# EAGLE library part SENSOR_BREAKOUT (library RTR)
.1 inch-spaced 12P sensor breakout Used as a generalized connector for attaching new sensors
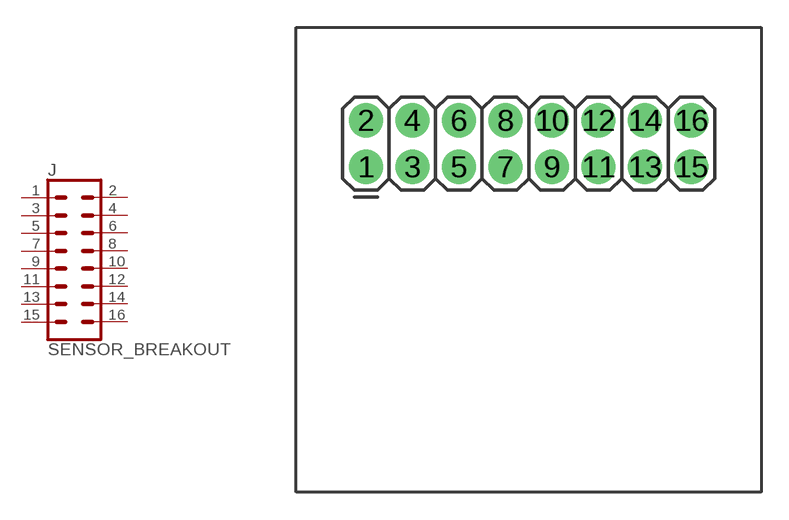
[diagram p2: symbol with the pads of 2X7; footprint 2X7]

Designator prefix J

## SENSOR_BREAKOUTPTH_FEMALE (PROD_ID: CONN-12423; VALUE: 2X6 FEMALE)  [2X7]
1  1  pas
2  2  pas
3  3  pas
4  4  pas
5  5  pas
6  6  pas
7  7  pas
8  8  pas
9  9  pas
10  10  pas
11  11  pas
12  12  pas
13  13  pas
14  14  pas
15  15  pas
16  16  pas

## Footprint 2X7 (pad centres in mm)
Plated Through Hole - 2x7 Specifications: Pin count:14 Pin pitch:0.1" Example device(s): CONN_07x2
drill 1.016 pad 1.88: 1 -8.89,5.08; 2 -8.89,7.62; 3 -6.35,5.08; 4 -6.35,7.62; 5 -3.81,5.08; 6 -3.81,7.62; 7 -1.27,5.08; 8 -1.27,7.62; 9 1.27,5.08; 10 1.27,7.62; 11 3.81,5.08; 12 3.81,7.62; 13 6.35,5.08; 14 6.35,7.62; 15 8.89,5.08; 16 8.89,7.62